# Altium schematic symbol library 8-Crystals & Oscillators 晶振.SchLib: 49 symbols
Pins are listed as number, name and electrical type; pins without a type are passive.

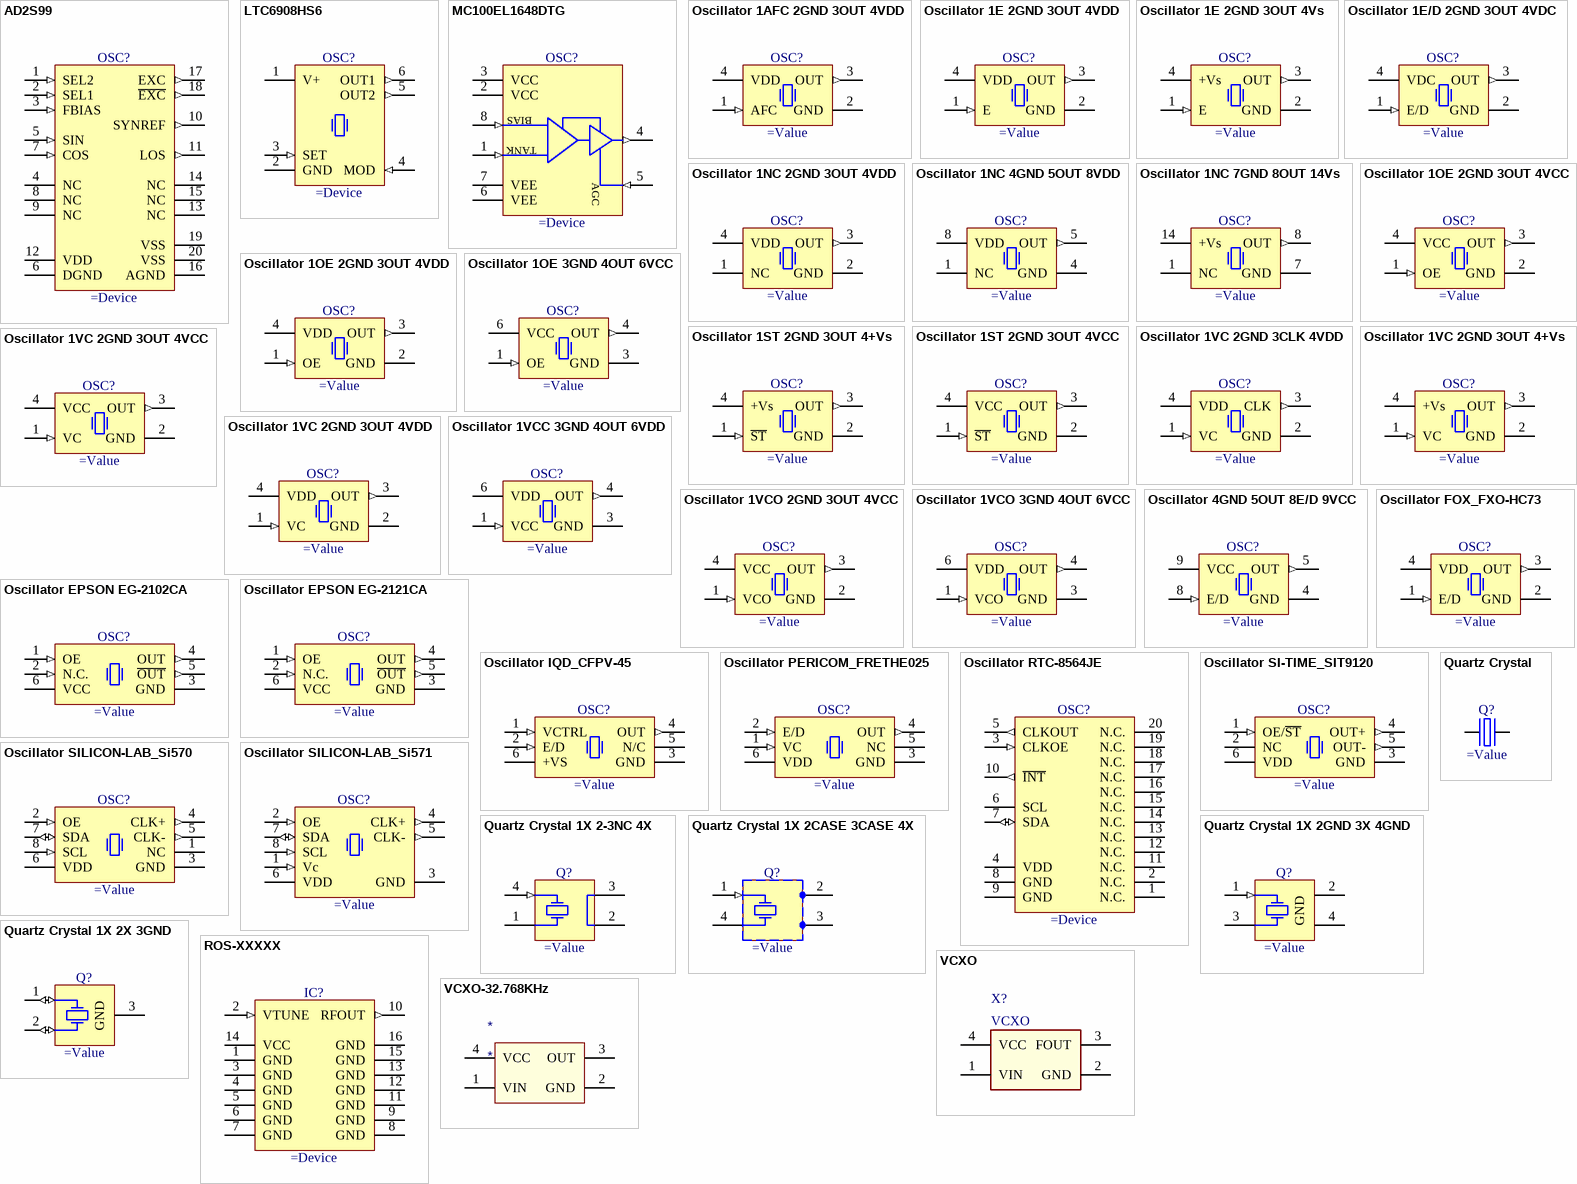
[diagram p0: symbols AD2S99 to VCXO-32.768KHz]

## AD2S99
designator OSC?
Programmable Sinusoidal Oscillator
pins: 1 SEL2 (in), 2 SEL1 (in), 3 FBIAS (in), 4 NC, 5 SIN (in), 6 DGND (power), 7 COS (in), 8 NC, 9 NC, 10 SYNREF (out), 11 LOS (out), 12 VDD (power), 13 NC, 14 NC, 15 NC, 16 AGND (power), 17 EXC (out), 18 ~{EXC} (out), 19 VSS (power), 20 VSS (power)

## LTC6908HS6
designator OSC?
Resistor Set SOT-23 Oscillator with Spread Spectrum Modulation
pins: 1 V+ (power), 2 GND (power), 3 SET (in), 4 MOD (in), 5 OUT2 (out), 6 OUT1 (out)

## MC100EL1648DTG
designator OSC?
5 V ECL Voltage Controlled Oscillator Amplifier
pins: 1 TANK (in), 2 VCC (power), 3 VCC (power), 4 OUT (out), 5 AGC (in), 6 VEE (power), 7 VEE (power), 8 BIAS (in)

## Oscillator 1AFC 2GND 3OUT 4VDD
designator OSC?
Oscillator 4 pins 1=AFC 2=GND 3=OUT 4=VDD
pins: 1 AFC (in), 2 GND (power), 3 OUT (out), 4 VDD (power)

## Oscillator 1E 2GND 3OUT 4VDD
designator OSC?
Oscillator 4 pins 1=E/D 2=GND 3=OUT 4=VDD
pins: 1 E (in), 2 GND (power), 3 OUT (out), 4 VDD (power)

## Oscillator 1E 2GND 3OUT 4Vs
designator OSC?
Oscillator 4 pins 1=E 2=GND 3=OUT 4=+Vs
pins: 1 E (in), 2 GND (power), 3 OUT (out), 4 +Vs (power)

## Oscillator 1E/D 2GND 3OUT 4VDC
designator OSC?
Oscillator 4 pins 1=E/D 2=GND 3=OUT 4=VDC
pins: 1 E/D (in), 2 GND (power), 3 OUT (out), 4 VDC (power)

## Oscillator 1NC 2GND 3OUT 4VDD
designator OSC?
Oscillator 4 pins 1=NC 2=GND 3=OUT 4=VDD
pins: 1 NC, 2 GND (power), 3 OUT (out), 4 VDD (power)

## Oscillator 1NC 4GND 5OUT 8VDD
designator OSC?
Oscillator 4 pins 1=NC 4=GND 5=OUT 8=+VDD
pins: 1 NC, 4 GND (power), 5 OUT (out), 8 VDD (power)

## Oscillator 1NC 7GND 8OUT 14Vs
designator OSC?
Oscillator 4 pins 1=NC 7=GND 8=OUT 14=+Vs
footprint XTAL_EPSON_TSX-3225 (Oscillator TSX-3225 Serie, Corner Concave; 4 pin, 2.50mm L X 3.2mm W X 0.6mm H)
pins: 1 NC, 7 GND (power), 8 OUT (out), 14 +Vs (power)

## Oscillator 1OE 2GND 3OUT 4VCC
designator OSC?
Oscillator 4 pins 1=OE 2=GND 3=OUT 4=VCC
pins: 1 OE (in), 2 GND (power), 3 OUT (out), 4 VCC (power)

## Oscillator 1OE 2GND 3OUT 4VDD
designator OSC?
Oscillator 4 pins 1=OE 2=GND 3=OUT 4=VDD
pins: 1 OE (in), 2 GND (power), 3 OUT (out), 4 VDD (power)

## Oscillator 1OE 3GND 4OUT 6VCC
designator OSC?
Oscillator 4 pins 1=OE 3=GND 4=OUT 6=VCC
pins: 1 OE (in), 3 GND (power), 4 OUT (out), 6 VCC (power)

## Oscillator 1ST 2GND 3OUT 4+Vs
designator OSC?
Oscillator 4 pins 1=\STB 2=GND 3=OUT 4=+Vs
pins: 1 ~{ST} (in), 2 GND (power), 3 OUT (out), 4 +Vs (power)

## Oscillator 1ST 2GND 3OUT 4VCC
designator OSC?
Oscillator 4 pins 1=\ST 2=GND 3=OUT 4=VCC
pins: 1 ~{ST} (in), 2 GND (power), 3 OUT (out), 4 VCC (power)

## Oscillator 1VC 2GND 3CLK 4VDD
designator OSC?
Oscillator 4 pins 1=VC 2=GND 3=CLK 4=VDD
pins: 1 VC (in), 2 GND (power), 3 CLK (out), 4 VDD (power)

## Oscillator 1VC 2GND 3OUT 4+Vs
designator OSC?
Oscillator 4 pins 1=VC 2=GND 3=OUT 4=+Vs
pins: 1 VC (in), 2 GND (power), 3 OUT (out), 4 +Vs (power)

## Oscillator 1VC 2GND 3OUT 4VCC
designator OSC?
Oscillator 4 pins 1=Voltage Control 2=GND 3=OUT 4=VCC
pins: 1 VC (in), 2 GND (power), 3 OUT (out), 4 VCC (power)

## Oscillator 1VC 2GND 3OUT 4VDD
designator OSC?
Oscillator 4 pins 1=VC 2=GND 3=OUT 4=VDD
pins: 1 VC (in), 2 GND (power), 3 OUT (out), 4 VDD (power)

## Oscillator 1VCC 3GND 4OUT 6VDD
designator OSC?
Oscillator 4 pins 1=VCC 3=GND 4=OUT 6=VDD
pins: 1 VCC (in), 3 GND (power), 4 OUT (out), 6 VDD (power)

## Oscillator 1VCO 2GND 3OUT 4VCC
designator OSC?
Oscillator 4 pins 1=VCO 2=GND 3=OUT 4=VDC
pins: 1 VCO (in), 2 GND (power), 3 OUT (out), 4 VCC (power)

## Oscillator 1VCO 3GND 4OUT 6VCC
designator OSC?
Oscillator 4 pins 1=VCO 3=GND 4=OUT 6=VDC
pins: 1 VCO (in), 3 GND (power), 4 OUT (out), 6 VDD (power)

## Oscillator 4GND 5OUT 8E/D 9VCC
designator OSC?
Oscillator 4 pins 4=GND 5=OUT 8=E/D 9=VCC
pins: 4 GND (power), 5 OUT (out), 8 E/D (in), 9 VCC (power)

## Oscillator EPSON EG-2102CA
designator OSC?
Low-Jitter Saw Oscillator (EG-2102 Serie)
pins: 1 OE (in), 2 N.C. (in), 3 GND (power), 4 OUT (out), 5 ~{OUT} (out), 6 VCC (power)

## Oscillator EPSON EG-2121CA
designator OSC?
Low-Jitter Saw Oscillator (EG-2121 Serie)
pins: 1 OE (in), 2 N.C. (in), 3 GND (power), 4 OUT (out), 5 ~{OUT} (out), 6 VCC (power)

## Oscillator FOX_FXO-HC73
designator OSC?
HCMOS Tri-State Surface Mount Oscillator VCXO (FXO-HC73 Serie)
pins: 1 E/D (in), 2 GND (power), 3 OUT (out), 4 VDD (power)

## Oscillator IQD_CFPV-45
designator OSC?
3.3V ±100ppm 15pF HCMOS Tri-State Surface Mount Voltage Controlled Oscillator VCXO (CFPV-45 Serie)
pins: 1 VCTRL (in), 2 E/D (in), 3 GND (power), 4 OUT (out), 5 N/C, 6 +VS (power)

## Oscillator PERICOM_FRETHE025
designator OSC?
3.3V CMOS 25.000MHz Ethernet VCXO
pins: 1 VC (in), 2 E/D (in), 3 GND (power), 4 OUT (out), 5 NC, 6 VDD (power)

## Oscillator RTC-8564JE
designator OSC?
Real Time Clock Module
pins: 1 N.C., 2 N.C., 3 CLKOE (in), 4 VDD (power), 5 CLKOUT (out), 6 SCL (hiz), 7 SDA (io), 8 GND (power), 9 GND (power), 10 ~{INT} (out), 11 N.C., 12 N.C., 13 N.C., 14 N.C., 15 N.C., 16 N.C., 17 N.C., 18 N.C., 19 N.C., 20 N.C.

## Oscillator SI-TIME_SIT9120
designator OSC?
Standard Frequency Differential Oscillator
pins: 1 OE/~{ST} (in), 2 NC, 3 GND (power), 4 OUT+ (out), 5 OUT- (out), 6 VDD (power)

## Oscillator SILICON-LAB_Si570
designator OSC?
Any-Rate I2C Programmable XO Oscillator Si570 Serie
pins: 1 NC, 2 OE (in), 3 GND (power), 4 CLK+ (out), 5 CLK- (out), 6 VDD (power), 7 SDA (io), 8 SCL (in)

## Oscillator SILICON-LAB_Si571
designator OSC?
Any-Rate I2C Programmable XO Oscillator Si571 Serie
pins: 1 Vc (in), 2 OE (in), 3 GND (power), 4 CLK+ (out), 5 CLK- (out), 6 VDD (power), 7 SDA (io), 8 SCL (in)

## Quartz Crystal
designator Q?
Quartz Crystal
pins: 1 OSC1, 2 OSC2

## Quartz Crystal 1X 2-3NC 4X
designator Q?
Crystal 4 pins 1=XTAL Control 2 And 3=NC 4=XTAL
pins: 1 X (power), 2 GND (power), 3 GND (power), 4 X (in)

## Quartz Crystal 1X 2CASE 3CASE 4X
designator Q?
Crystal 4 pins 1=XTAL Control 2=CASE 3=CASE 4=XTAL
pins: 1 X (in), 2 GND (power), 3 GND (power), 4 X (power)

## Quartz Crystal 1X 2GND 3X 4GND
designator Q?
Crystal 4 pins 1=XTAL Control 2=GND3=XTAL 4=GND
pins: 1 X (in), 2 GND (power), 3 X (power), 4 GND (power)

## Quartz Crystal 1X 2X 3GND
designator Q?
Crystal 3 pins 1=XTAL 2=XTAL 3=GND
pins: 1 X (io), 2 X (io), 3 GND (power)

## ROS-XXXXX
designator IC?
MINI-CIRCUITS Ultra Low Noise Voltage Controlled Oscillator
pins: 1 GND (power), 2 VTUNE (in), 3 GND (power), 4 GND (power), 5 GND (power), 6 GND (power), 7 GND (power), 8 GND (power), 9 GND (power), 10 RFOUT (out), 11 GND (power), 12 GND (power), 13 GND (power), 14 VCC (power), 15 GND (power), 16 GND (power)

## VCXO
designator X?
footprint VCXO
pins: 1 VIN, 2 GND, 3 FOUT, 4 VCC

## VCXO-32.768KHz
designator *
pins: 1 VIN, 2 GND, 3 OUT, 4 VCC

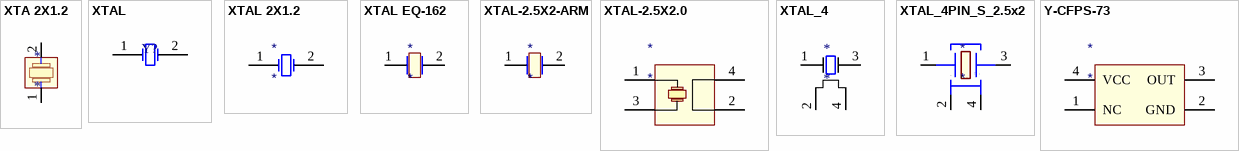
[diagram p1: symbols XTA 2X1.2 to Y-CFPS-73]

## XTA 2X1.2
designator *
footprint Y-2.0X1.2
pins: 1, 2

## XTAL
designator Y?
Crystal Oscillator; Published: 8-Jun-2000; LatestRevisionDate: 17-Jul-2002; LatestRevisionNote: Re-released for DXP Platform.; PackageReference: R38; Publisher: Altium Limited
footprint BCY-W2/D3.1 (Crystal, Thru-Hole; 2 Leads; Body 3.1 x 8.2 mm (Dia.xH))
simulation model XTAL (Spice Subcircuit)
pins: 1 OSC1, 2 OSC2

## XTAL 2X1.2
designator *
footprint Y-2.0X1.2
pins: 1 OSC1, 2 OSC2

## XTAL EQ-162
designator *
footprint OSC-9H
pins: 1, 2

## XTAL-2.5X2-ARM
designator *
footprint XT-2A
pins: 1, 2

## XTAL-2.5X2.0
designator *
footprint Y-2.5X2.0
pins: 1, 2, 3, 4

## XTAL_4
designator *
pins: 1, 2, 3, 4

## XTAL_4PIN_S_2.5x2
designator *
footprint Y-2.5X2.0
pins: 1, 2 (power), 3, 4 (power)

## Y-CFPS-73
designator *
footprint Y-7252
pins: 1 NC, 2 GND, 3 OUT, 4 VCC